# Altium schematic symbol library acopians-powerspy-ac-power-hw-library-schematic.SchLib: 21 symbols
Pins are listed as number, name and electrical type; pins without a type are passive.

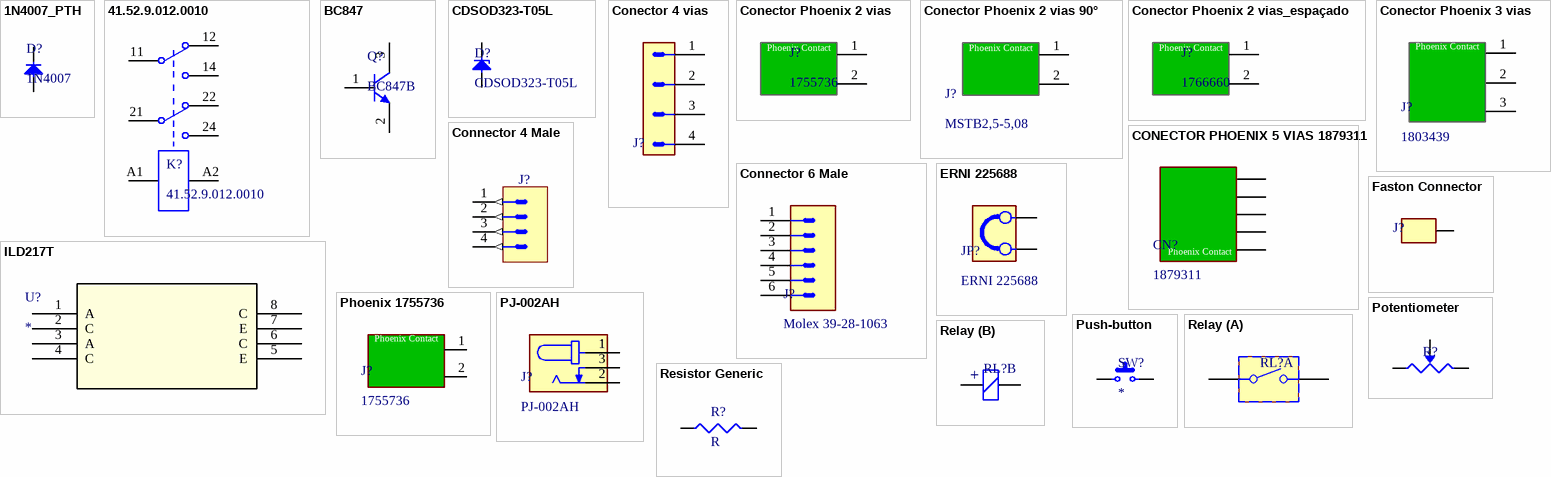
[diagram p0: symbols 1N4007_PTH to Resistor Generic]

## 1N4007_PTH
designator D?, comment 1N4007
footprint DIODE 1N4007 (Retifier Diode 1N4007)
pins: 1, 2

## 41.52.9.012.0010
designator K?
Low Profile PCB Relay, 2 CO DPDT, 8A, Coil: 12VDC
footprint 41.52.9.005.0010 (Low Profile PCB Relay, 2 CO DPDT, 8A, Coil: 5VDC)
pins: 11, 12, 14, 21, 22, 24, A1, A2

## BC847
designator Q?, comment BC847B
NPN Silicon AF Transistor, 45 V VCEO, 100 mA IC, SOT23, Reel, Green; Manufacturer: Infineon; VEBO (max): 6Â V; ICBO (max): 15Â nA; VCBO (max): 50Â V; IBM (max): 200Â mA; Green: TRUE; Ptot (max): 330Â mW; fT (typ): 250Â MHz; IC (max): 100Â mA; VCEO (max): 45Â V; PackageDescription: 3-Pin Small Outline Transistor Package, 1.3 x 2.9 mm Body, 0.95 mm Pitch; ComponentLink3URL: http://www.infineon.com/dgdl/SOT23-Package_Overview.pdf?folderId=db3a30431936bc4b0119532290053c66&fileId=db3a30431936bc4b0119533468123c85; PackageVersion: Apr-08; Packing: Reel; ComponentLink3Description: Package Specification; ComponentLink2URL: http://www.infineon.com/dgdl/bc847series_bc848series_bc849series_bc850series.pdf?folderId=db3a304314dca389011541d30fa21656&fileId=db3a304314dca389011541d4630a1657; ComponentLink1URL: http://www.infineon.com/; ComponentLink2Description: Datasheet; Polarity: NPN; Mounting Technology: Surface Mount; PackageReference: SOT23; ICM (max): 200Â mA; ComponentLink1Description: Manufacturer URL; PartNumber: BC847B
footprint INF-SOT23_L (SOT23, 3-Leads, Body 2.9x1.3 mm, Pitch 0.95 mm, IPC High Density)
footprint INF-SOT23_M (SOT23, 3-Leads, Body 2.9x1.3 mm, Pitch 0.95 mm, IPC Low Density)
footprint INF-SOT23_N (SOT23, 3-Leads, Body 2.9x1.3 mm, Pitch 0.95 mm, IPC Medium Density)
pins: 1 B, 2 E, 3 C

## CDSOD323-T05L
designator D?
Unidirectional TVS Diode; Supplier 1: Avnet; Supplier Part Number 1: CDSOD323-T05L
footprint SOD-323
pins: 1, 2

## Conector 4 vias
designator J?
footprint MOLEX_39-28-1043 (4.20mm (.165") Pitch Mini-Fit Jr. Header, Dual Row, Vertical, without Snap-in Plastic Peg PCB Lock, 4 Circuits)
pins: 1, 2, 3, 4

## Conector Phoenix 2 vias
designator J?, comment 1755736
footprint Conector 2 vias
pins: 1, 2
text: Phoenix Contact

## Conector Phoenix 2 vias 90°
designator J?, comment MSTB2,5-5,08
Conector Phoenix 2 vias 90°
footprint HDR_Male_2x5.08mm
pins: 1, 2
text: Phoenix Contact

## Conector Phoenix 2 vias_espaçado
designator J?, comment 1766660
Pitch 7.5mm
footprint Conector 2 vias espaçado
pins: 1, 2
text: Phoenix Contact

## Conector Phoenix 3 vias
designator J?, comment 1803439
footprint Conector Phoenix 3 vias (1803439)
pins: 1, 2, 3
text: Phoenix Contact

## CONECTOR PHOENIX 5 VIAS 1879311
designator CN?, comment 1879311
Conector Phoenix 5 vias 1879311; Código LNLS: AP102667; ComponentLink1Description: https://www.onlinecomponents.com/en/datasheet/emcv155gf381-48817554/; ComponentLink1URL: https://www.onlinecomponents.com/en/datasheet/emcv155gf381-48817554/
footprint Conector Phoenix 5 vias 1879311
pins: 1, 2, 3, 4, 5
text: Phoenix Contact

## Connector 4 Male
designator J?, comment Molex 39-28-1043  (value not drawn)
Connector 4 Male
pins: 1 (out), 2 (out), 3 (out), 4 (out)
1 alternate drawing of the same symbol

## Connector 6 Male
designator J?, comment Molex 39-28-1063
footprint MOLEX_39-28-1063 (4.20mm (.165") Pitch Mini-Fit Jr. Header, Dual Row, Vertical, without Snap-in Plastic Peg PCB Lock, 6 Circuits)
pins: 1, 2, 3, 4, 5, 6

## ERNI 225688
designator JP?
footprint ERNI 225688
pins: 1, 2

## Faston Connector
designator J?
footprint Faston Connector
pins: 1

## ILD217T
designator U?
No Description Available; Mfr_Name: Vishay; RefDes: RefDes; Type: Type
footprint SO-8_ILD
pins: 1 A, 2 C, 3 A, 4 C, 5 E, 6 C, 7 E, 8 C

## Phoenix 1755736
designator J?, comment 1755736
Term Block HDR 2POS VERT 5.08MM
footprint Conector 2 vias
pins: 1, 2
text: Phoenix Contact

## PJ-002AH
designator J?
DC Power Jack Connector, 5.0A, Right-Angle Orientation, Through Hole, 2.0 x 6.5 mm
footprint PJ-002AH
pins: 1, 2, 3

## Potentiometer
designator R?  (value not drawn)
pins: 1, 2, 2

## Push-button
designator SW?
pins: 1, 1

## Relay
designator RL?
part A pins: 1, 2
part B pins: 1, 2
part B text: +

## Resistor Generic
designator R?, comment R  (mechanical)
footprint R1210
footprint R0805
pins: 1, 2